# Altium schematic symbol library WB_SFP.SchLib: 3 symbols
Pins are listed as number, name and electrical type; pins without a type are passive.

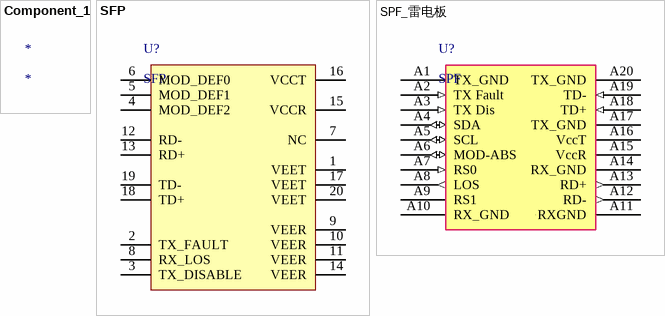
[diagram p0: symbols Component_1 to SPF_雷电板]

## Component_1
designator *

## SFP
designator U?
pins: 1 VEET, 2 TX_FAULT (power), 3 TX_DISABLE, 4 MOD_DEF2 (power), 5 MOD_DEF1, 6 MOD_DEF0, 7 NC, 8 RX_LOS (power), 9 VEER, 10 VEER (power), 11 VEER, 12 RD-, 13 RD+, 14 VEER, 15 VCCR, 16 VCCT, 17 VEET, 18 TD+, 19 TD-, 20 VEET

## SPF_雷电板
designator U?, comment SPF
pins: A1 TX_GND (power), A2 TX Fault (in), A3 TX Dis (in), A4 SDA (io), A5 SCL (io), A6 MOD-ABS (io), A7 RS0 (in), A8 LOS (out), A9 RS1, A10 RX_GND (power), A11 RXGND (power), A12 RD- (out), A13 RD+ (out), A14 RX_GND (power), A15 VccR (power), A16 VccT (power), A17 TX_GND (power), A18 TD+ (in), A19 TD- (in), A20 TX_GND (power), A21, A22